# EAGLE library part MA04-2 (library STEMTera)
Pin Header 2x4 Dual Row 0.1inch 2.54mm
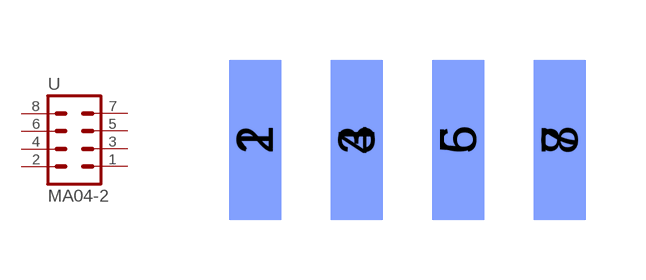
[diagram p11: symbol with the pads of BOX-HEADER-EDGE-2X4; footprint BOX-HEADER-EDGE-2X4]

Designator prefix -

## MA04-2  [BOX-HEADER-EDGE-2X4]
1  1  pas
2  2  pas
3  3  pas
4  4  pas
5  5  pas
6  6  pas
7  7  pas
8  8  pas

## Footprint BOX-HEADER-EDGE-2X4 (pad centres in mm)
Box Header mounted on PCB edge. 2x4 0.1inch 2.54mm
smd 1.3 x 4: 1 0,0; 3 2.54,0; 5 5.08,0; 7 7.62,0
smd 1.3 x 4 bottom: 2 0,0; 4 2.54,0; 6 5.08,0; 8 7.62,0